# Altium schematic symbol library Sensor.SchLib: 3 symbols
Pins are listed as number, name and electrical type; pins without a type are passive.

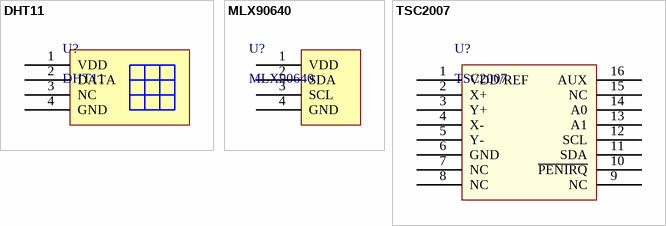
[diagram p0: symbols DHT11 to TSC2007]

## DHT11
designator U?
温湿度传感器
footprint DHT11
pins: 1 VDD, 2 DATA, 3 NC, 4 GND

## MLX90640
designator U?
footprint MLX90640
pins: 1 VDD, 2 SDA, 3 SCL, 4 GND

## TSC2007
designator U?
1.2V to 3.6V, 12-Bit, Nanopower, 4-Wire Micro TOUCH SCREEN CONTROLLER with I2C™ Interface
footprint SSOP-16_4.4x5mm_P0.65 (TSOP, 16-Leads, Body 5.00x4.40mm, Pitch 0.65mm, Thermal Pad 3.30x3.30mm, IPC Medium Density)
pins: 1 VDD/REF, 2 X+, 3 Y+, 4 X-, 5 Y-, 6 GND, 7 NC, 8 NC, 9 NC, 10 ~{PENIRQ}, 11 SDA, 12 SCL, 13 A1, 14 A0, 15 NC, 16 AUX